# Altium schematic symbol library WIZ-IP55.SchLib: 2 symbols
Pins are listed as number, name and electrical type; pins without a type are passive.

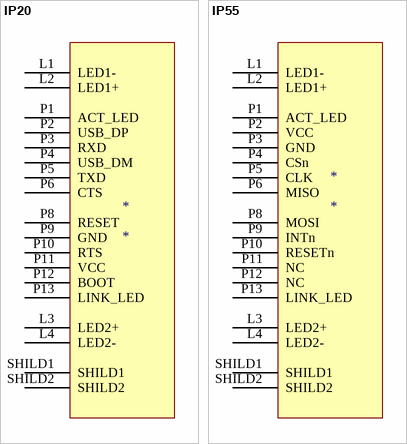
[diagram p0: symbols IP20 to IP55]

## IP20
designator *
pins: L1 LED1-, L2 LED1+, L3 LED2+, L4 LED2-, P1 ACT_LED, P2 USB_DP, P3 RXD, P4 USB_DM, P5 TXD, P6 CTS, P8 RESET, P9 GND, P10 RTS, P11 VCC, P12 BOOT, P13 LINK_LED, SHILD1, SHILD2

## IP55
designator *
pins: L1 LED1-, L2 LED1+, L3 LED2+, L4 LED2-, P1 ACT_LED, P2 VCC, P3 GND, P4 CSn, P5 CLK, P6 MISO, P8 MOSI, P9 INTn, P10 RESETn, P11 NC, P12 NC, P13 LINK_LED, SHILD1, SHILD2